# Altium schematic symbol library Schlib1.SchLib: 10 symbols
Pins are listed as number, name and electrical type; pins without a type are passive.

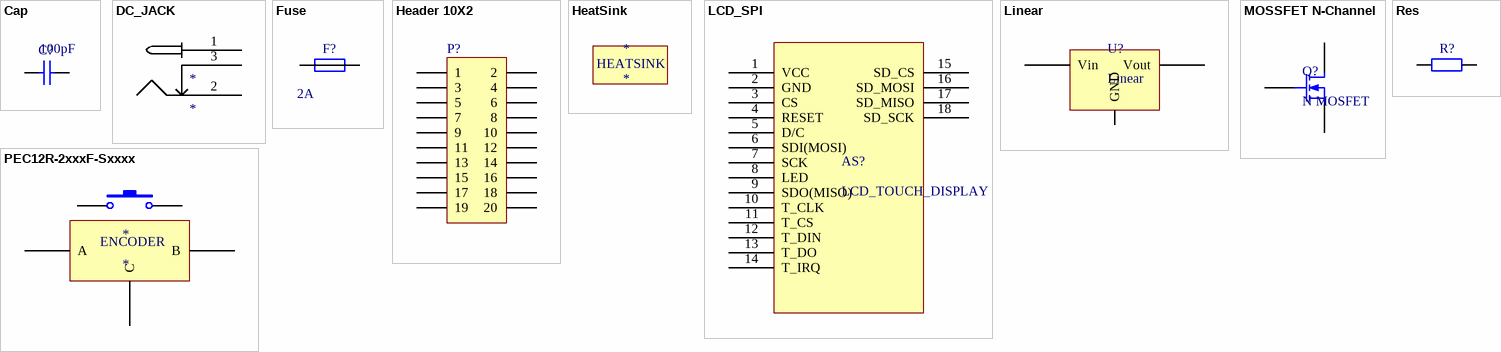
[diagram p0: symbols Cap to Res]

## Cap
designator C?  value 100pF  (hidden comment: Cap)
Capacitor; Published: 8-Jun-2000; LatestRevisionDate: 17-Jul-2002; LatestRevisionNote: Re-released for DXP Platform.; PackageReference: RAD-0.3; Publisher: Altium Limited; PackageDescription: Radial Cap, Thru-Hole; 2 Leads; 0.3 in Pin Spacing
footprint 0603_CAP
footprint 1206_CAP (Chip Capacitor, 2-Leads, Body 3,20x1,60mm, IPC Low Density)
footprint 0805_Cap
pins: 1, 2

## DC_JACK
designator *
footprint DC_JACK_6.3mm
pins: 1, 2, 3

## Fuse
designator F?  Current: 2A  (hidden comment: Fuse)
Umax: 32V; Type: Normal Blow
footprint 0603_RES (Chip Resistor, 2-Leads, Body 1,57x0,85mm, IPC Medium Density)
pins: 1, 2

## Header 10X2
designator P?
Header, 10-Pin, Dual row; LatestRevisionDate: 17-Jul-2002; LatestRevisionNote: Re-released for DXP Platform.; Publisher: Altium Limited
footprint 3M_303_20pin
pins: 1, 2, 3, 4, 5, 6, 7, 8, 9, 10, 11, 12, 13, 14, 15, 16, 17, 18, 19, 20

## HeatSink
designator *
footprint Heat_Sink
text: HEATSINK

## LCD_SPI
designator AS?, comment LCD_TOUCH_DISPLAY
http://www.ebay.co.uk/itm/240x320-2-4-SPI-TFT-LCD-Touch-Panel-Serial-Port-Module-with-PBC-ILI9341-5V-3-3V-/121414443081?pt=UK_BOI_Electrical_Components_Supplies_ET&hash=item1c44dd6049
footprint LCD_SPI (http://www.ebay.co.uk/itm/240x320-2-4-SPI-TFT-LCD-Touch-Panel-Serial-Port-Module-with-PBC-ILI9341-5V-3-3V-/121414443081?pt=UK_BOI_Electrical_Components_Supplies_ET&hash=item1c44dd6049)
pins: 1 VCC, 2 GND, 3 CS, 4 RESET, 5 D/C, 6 SDI(MOSI), 7 SCK, 8 LED, 9 SDO(MISO), 10 T_CLK, 11 T_CS, 12 T_DIN, 13 T_DO, 14 T_IRQ, 15 SD_CS, 16 SD_MOSI, 17 SD_MISO, 18 SD_SCK

## Linear
designator U?
footprint TO-263
footprint SOT230P700X180-4M (SOT223, 4-Leads, Body 6,50x7,00mm (avg), Pitch 2,30mm, IPC Low Density)
footprint TO-252 (D-PAK/TO-252-AA; 3 Leads (1 Cropped); Body 10.1 (inc. leads) x 6.6 mm (LxW max)); pin to pad GN>1 Vin>3 Vout>4
pins: GN GND, Vin, Vout

## MOSSFET N-Channel
designator Q?, comment N MOSFET
N-channel MOSFET; R(ds): 100m; I(d): 10A; V(gs): 30V; V(ds): 200V; V(gs)min: V
footprint TO220V (TO, Thru-Hole, Vertical, Heatsink Mounted; 3 In-Line Leads; Pitch 2.54 mm; Pin sequence 1, 3, 2)
pins: D, G, S

## PEC12R-2xxxF-Sxxxx
designator *
footprint Rotary_encoder_ver
pins: 1, 2, A, B, C
text: ENCODER

## Res
designator R?  (value not drawn)
Power: 0.125W; Tolerance: 1%; Value: 1K; Part_number: *
footprint 2512_Res (2512 Resitor)
footprint 100W_res
footprint 0603_RES (Chip Resistor, 2-Leads, Body 1,57x0,85mm, IPC Medium Density)
pins: 1, 2